# EAGLE library part 5584АП5АУ (library std-logic)
Два четырехканальных формирователя с тремя состояниями на выходе. Производитель: ОАО "ИНТЕГРАЛ", г. Минск, р. Беларусь Технические условия: АЕЯР.431200.209 ТУ
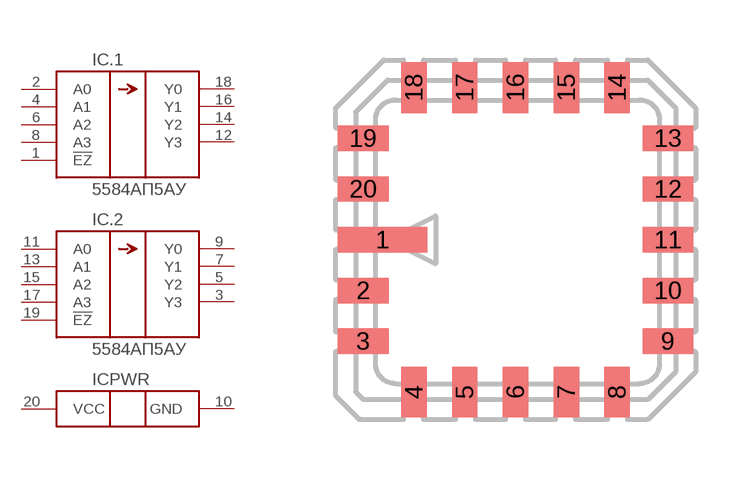
[diagram p0: symbol with the pads of 5121.20-A; footprint 5121.20-A]

Designator prefix IC; gates .1=5584АП5 .2=5584АП5 PWR=5584АП5_PWR

## 5584АП5АУ  [5121.20-A]
1  .1:!EZ
2  .1:A0
3  .2:Y3
4  .1:A1
5  .2:Y2
6  .1:A2
7  .2:Y1
8  .1:A3
9  .2:Y0
10  PWR:GND  pwr
11  .2:A0
12  .1:Y3
13  .2:A1
14  .1:Y2
15  .2:A2
16  .1:Y1
17  .2:A3
18  .1:Y0
19  .2:!EZ
20  PWR:VCC  pwr

## Footprint 5121.20-A (pad centres in mm)
smd 2.24 x 0.635: 1 -3.325,0
smd 1.27 x 0.635: 2 -3.81,-1.27; 3 -3.81,-2.54; 9 3.81,-2.54; 10 3.81,-1.27; 11 3.81,0; 12 3.81,1.27; 13 3.81,2.54; 19 -3.81,2.54; 20 -3.81,1.27
smd 0.635 x 1.27: 4 -2.54,-3.81; 5 -1.27,-3.81; 6 0,-3.81; 7 1.27,-3.81; 8 2.54,-3.81; 14 2.54,3.81; 15 1.27,3.81; 16 0,3.81; 17 -1.27,3.81; 18 -2.54,3.81